# Altium schematic symbol library DFE252010F-1R5MP2.SchLib: 2 symbols
Pins are listed as number, name and electrical type; pins without a type are passive.

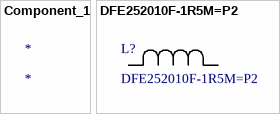
[diagram p0: symbols Component_1 to DFE252010F-1R5M=P2]

## Component_1
designator *

## DFE252010F-1R5M=P2
designator L?
No Description Available; Mfr_Name: Murata; Type: DEV; Copyright: Copyright (C) 2022 Ultra Librarian. All rights reserved.; Manufacturer_Part_Number: DFE252010F-1R5M=P2; RefDes: RefDes
footprint IND_DFE252010F-1R5M=P2_MUR
pins: 1, 2